# Altium footprint library RC0805FR-074K7L.PcbLib: 3 footprints
Each footprint in its own frame and in the unit in brackets; x right, y up, seen from the top. Pads: shape width x height; smd on the part's side, far side on the other; paste and mask are expansions set on the pad; w line width, h text height; cw(c..) or ccw(c..) is an arc to the next point about the centre after c.
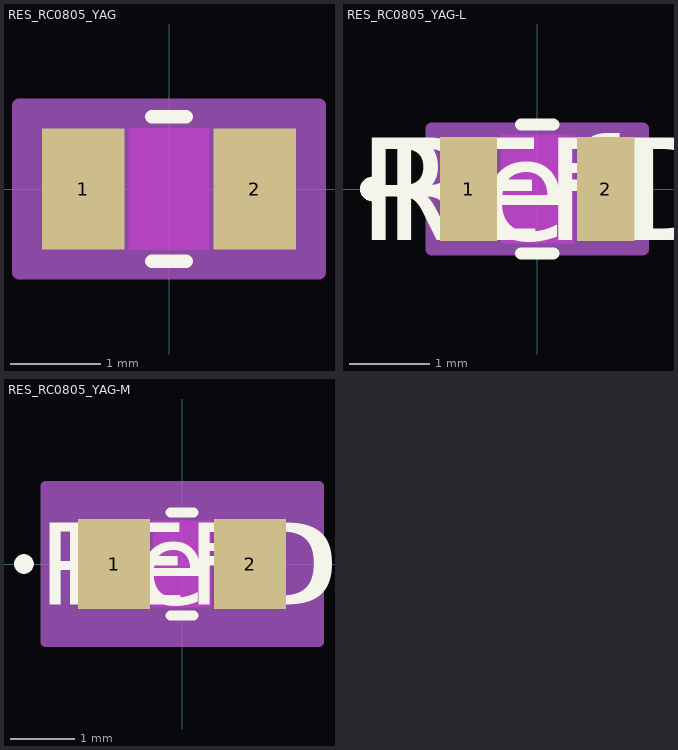
[diagram p0: the footprints below, top view; thin cyan lines are the x and y axes]

## RES_RC0805_YAG [mil]
pads (2):
  rect 36x53 smd paste+0 mask+0: 1(-37.5,0) 2(37.5,0)
Top Layer keep-out:
  region: -17.5,-24.5 -17.5,24.5 17.5,24.5 17.5,-24.5
Top Overlay:
  lines w6: -7.39,-31.5 7.39,-31.5 ; -7.39,31.5 7.39,31.5
Keep-Out Layer:
  region: -17.5,-26.5 -17.5,26.5 17.5,26.5 17.5,-26.5
Mechanical 13:
  lines w1: -41.5,-26.5 -41.5,26.5 ; -41.5,-26.5 41.5,-26.5 ; -41.5,-26.5 -19.5,-26.5 -19.5,26.5 -41.5,26.5 ; -41.5,-26.5 -41.5,26.5 ; -41.5,26.5 41.5,26.5 ; 41.5,-26.5 41.5,26.5 ; 41.5,-26.5 41.5,26.5 ; 41.5,-26.5 19.5,-26.5 19.5,26.5 41.5,26.5
Mechanical 15:
  region: 65.5,-36.5 -65.5,-36.5 -65.5,36.5 65.5,36.5
  lines w6: -65.5,-36.5 65.5,-36.5 65.5,36.5 -65.5,36.5 -65.5,-36.5
3D body "RES_RC0805_YAG.step": height 24.02, standoff 0, extent -41.5,-26.5 41.5,26.5

## RES_RC0805_YAG-L [mil]
pads (2):
  rect 28x51 smd paste+0 mask+0: 1(-33.5,0) 2(33.5,0)
Top Layer keep-out:
  region: -17.5,-24.5 -17.5,24.5 17.5,24.5 17.5,-24.5
Top Overlay:
  circle w6: c-80.5,0 r3
  lines w6: -7.85,-31.5 7.85,-31.5 ; -7.85,31.5 7.85,31.5
  text "RefDes" at -75,-25 h50
  text "REFDES" at -87.5,-25 h50
Keep-Out Layer:
  region: -17.5,-26.5 -17.5,26.5 17.5,26.5 17.5,-26.5
Mechanical 13:
  circle w0: c-28.5,0 r3
  lines w1: -41.5,-26.5 -41.5,26.5 ; -41.5,-26.5 -19.5,-26.5 -19.5,26.5 -41.5,26.5 ; -41.5,-26.5 41.5,-26.5 ; -41.5,-26.5 -41.5,26.5 ; -41.5,26.5 41.5,26.5 ; 41.5,-26.5 19.5,-26.5 19.5,26.5 41.5,26.5 ; 41.5,-26.5 41.5,26.5 ; 41.5,-26.5 41.5,26.5
  text "RefDes2" at -87.5,-25 h50
Mechanical 15:
  region: 51.5,-29.5 -51.5,-29.5 -51.5,29.5 51.5,29.5
  lines w6: -51.5,-29.5 -51.5,29.5 51.5,29.5 51.5,-29.5 -51.5,-29.5
3D body "RES_RC0805_YAG.step": height 24.02, standoff 0, extent -41.5,-26.5 41.5,26.5

## RES_RC0805_YAG-M [mil]
pads (2):
  rect 44x55 smd paste+0 mask+0: 1(-41.5,0) 2(41.5,0)
Top Layer keep-out:
  region: -17.5,-24.5 -17.5,24.5 17.5,24.5 17.5,-24.5
Top Overlay:
  circle w6: c-96.5,0 r3
  lines w6: -7.03,-31.5 7.03,-31.5 ; -7.03,31.5 7.03,31.5
  text "RefDes" at -75,-25 h50
  text "REFDES" at -87.5,-25 h50
Keep-Out Layer:
  region: -17.5,-26.5 -17.5,26.5 17.5,26.5 17.5,-26.5
Mechanical 13:
  circle w0: c-36.5,0 r3
  lines w1: -41.5,-26.5 -41.5,26.5 ; -41.5,-26.5 -19.5,-26.5 -19.5,26.5 -41.5,26.5 ; -41.5,-26.5 41.5,-26.5 ; -41.5,-26.5 -41.5,26.5 ; -41.5,26.5 41.5,26.5 ; 41.5,-26.5 19.5,-26.5 19.5,26.5 41.5,26.5 ; 41.5,-26.5 41.5,26.5 ; 41.5,-26.5 41.5,26.5
  text "RefDes2" at -87.5,-25 h50
Mechanical 15:
  region: 83.5,-47.5 -83.5,-47.5 -83.5,47.5 83.5,47.5
  lines w6: -83.5,-47.5 -83.5,47.5 83.5,47.5 83.5,-47.5 -83.5,-47.5
3D body "RES_RC0805_YAG.step": height 24.02, standoff 0, extent -41.5,-26.5 41.5,26.5